# EAGLE library part DS276 (library 000001)
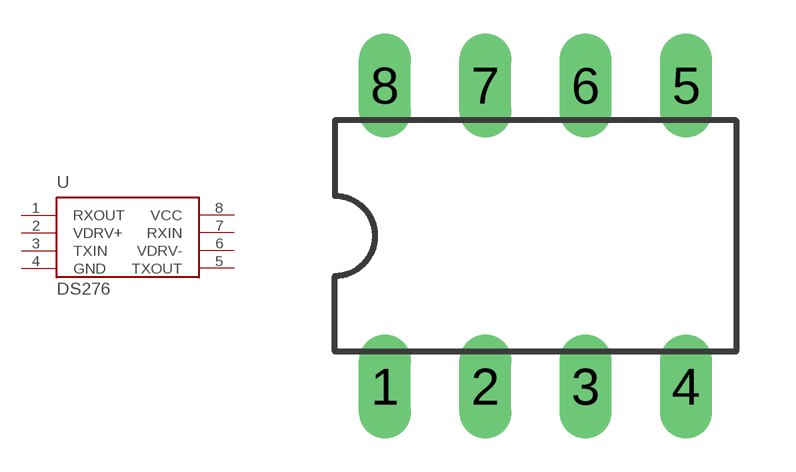
[diagram p31: symbol with the pads of DIL08; footprint DIL08]

Designator prefix -

## DS276  [DIL08]
1  RXOUT
2  VDRV+
3  TXIN
4  GND
5  TXOUT
6  VDRV-
7  RXIN
8  VCC

## Footprint DIL08 (pad centres in mm)
Dual In Line Package
drill 0.813 long: 1 -3.81,-3.81; 2 -1.27,-3.81; 3 1.27,-3.81; 4 3.81,-3.81; 5 3.81,3.81; 6 1.27,3.81; 7 -1.27,3.81; 8 -3.81,3.81